# Altium schematic symbol library 338069-8.SchLib: 1 symbol
Pins are listed as number, name and electrical type; pins without a type are passive.

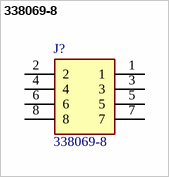
[diagram p0: symbol 338069-8]

## 338069-8
designator J?
Body Features: Connector Profile Standard | Daisy Chain Without | Primary Product Color Red | Configuration Features: Number of Rows 2 | PCB Mount Orientation Vertical | Number of Positions 8 | Contact Features: PCB Contact Termination Area Plating Material Finish Matte | Contact Mating Area Plating Material Thickness 3  5 MICM | PCB Contact Termination Area Plating Material Tin | Contact Mating Area Plating Material Tin | Contact Current Rating (Max) 1.5 AMP | Contact Base Material Phosphor Bronze | PCB; Manufacturer_Name: TE Connectivity; Geometry.Height: 5.3mm; Mouser Part Number: 571-338069-8; Mouser Price/Stock: https://www.mouser.co.uk/ProductDetail/TE-Connectivity/338069-8?qs=GhSsVVVq7dQLf4JKhIzYQA%3D%3D; Manufacturer_Part_Number: 338069-8; Datasheet Link: https://www.te.com/commerce/DocumentDelivery/DDEController?Action=srchrtrv&DocNm=4-1773457-1_050_Micro_MaTch&DocType=Data%20Sheet&DocLang=English&PartCntxt=338069-8&DocFormat=pdf
footprint 3380698
pins: 1, 2, 3, 4, 5, 6, 7, 8